# EAGLE library part DISPLAYSCREEN (library EtchSketch)
displayscreen
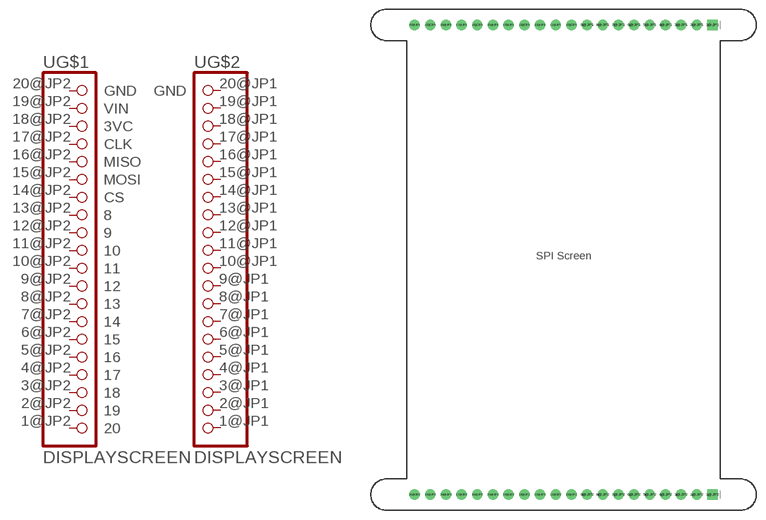
[diagram p3: symbol with the pads of DISPLAYSCREEN; footprint DISPLAYSCREEN]

Designator prefix -; gates G$1=PINHD20 G$2=PINHD20_RIGHT

## DISPLAYSCREEN  [DISPLAYSCREEN]
1@JP1  G$2:20  pas
1@JP2  G$1:20  pas
2@JP1  G$2:19  pas
2@JP2  G$1:19  pas
3@JP1  G$2:18  pas
3@JP2  G$1:18  pas
4@JP1  G$2:17  pas
4@JP2  G$1:17  pas
5@JP1  G$2:16  pas
5@JP2  G$1:16  pas
6@JP1  G$2:15  pas
6@JP2  G$1:15  pas
7@JP1  G$2:14  pas
7@JP2  G$1:14  pas
8@JP1  G$2:13  pas
8@JP2  G$1:13  pas
9@JP1  G$2:12  pas
9@JP2  G$1:12  pas
10@JP1  G$2:11  pas
10@JP2  G$1:11  pas
11@JP1  G$2:10  pas
11@JP2  G$1:10  pas
12@JP1  G$2:9  pas
12@JP2  G$1:9  pas
13@JP1  G$2:8  pas
13@JP2  G$1:8  pas
14@JP1  G$2:7  pas
14@JP2  G$1:CS  pas
15@JP1  G$2:6  pas
15@JP2  G$1:MOSI  pas
16@JP1  G$2:5  pas
16@JP2  G$1:MISO  pas
17@JP1  G$2:4  pas
17@JP2  G$1:CLK  pas
18@JP1  G$2:3  pas
18@JP2  G$1:3VC  pas
19@JP1  G$2:2  pas
19@JP2  G$1:VIN  pas
20@JP1  G$2:GND  pas
20@JP2  G$1:GND  pas

## Footprint DISPLAYSCREEN (pad centres in mm)
Package generated by make-group2pac.ulp from: C:/Users/chael/Documents/EAGLE/projects/EtchSketch/Adafruit 2.8 inch TFT w Capacitive Touch.brd at: 5/2/2023 8:54 AM
drill 1 pad 1.676 square: 1@JP1 24.13,38.1; 1@JP2 24.13,-38.1
drill 1 pad 1.676: 2@JP1 21.59,38.1; 2@JP2 21.59,-38.1; 3@JP1 19.05,38.1; 3@JP2 19.05,-38.1; 4@JP1 16.51,38.1; 4@JP2 16.51,-38.1; 5@JP1 13.97,38.1; 5@JP2 13.97,-38.1; 6@JP1 11.43,38.1; 6@JP2 11.43,-38.1; 7@JP1 8.89,38.1; 7@JP2 8.89,-38.1; 8@JP1 6.35,38.1; 8@JP2 6.35,-38.1; 9@JP1 3.81,38.1; 9@JP2 3.81,-38.1; 10@JP1 1.27,38.1; 10@JP2 1.27,-38.1; 11@JP1 -1.27,38.1; 11@JP2 -1.27,-38.1; 12@JP1 -3.81,38.1; 12@JP2 -3.81,-38.1; 13@JP1 -6.35,38.1; 13@JP2 -6.35,-38.1; 14@JP1 -8.89,38.1; 14@JP2 -8.89,-38.1; 15@JP1 -11.43,38.1; 15@JP2 -11.43,-38.1; 16@JP1 -13.97,38.1; 16@JP2 -13.97,-38.1; 17@JP1 -16.51,38.1; 17@JP2 -16.51,-38.1; 18@JP1 -19.05,38.1; 18@JP2 -19.05,-38.1; 19@JP1 -21.59,38.1; 19@JP2 -21.59,-38.1; 20@JP1 -24.13,38.1; 20@JP2 -24.13,-38.1